# Altium schematic symbol library BQ27220YZFR.SchLib: 1 symbol
Pins are listed as number, name and electrical type; pins without a type are passive.

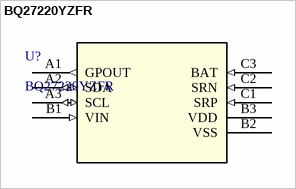
[diagram p0: symbol BQ27220YZFR]

## BQ27220YZFR
designator U?
Single cell pack/system-side CEDV battery fuel (gas) gauge w/pre-programmed chemistry profiles 9-DSBGA -40 to 85; Manufacturer_Name: Texas Instruments; Copyright: Copyright (C) 2025 Ultra Librarian. All rights reserved.; Manufacturer_Part_Number: BQ27220YZFR; RefDes: RefDes; Type: Type
footprint YZF9_TEX
pins: A1 GPOUT (out), A2 SDA (io), A3 SCL (io), B1 VIN (in), B2 VSS (power), B3 VDD (power), C1 SRP (in), C2 SRN (in), C3 BAT (in)